# Altium integrated library Actel MX.IntLib: 334 symbols (part 20 of 20)
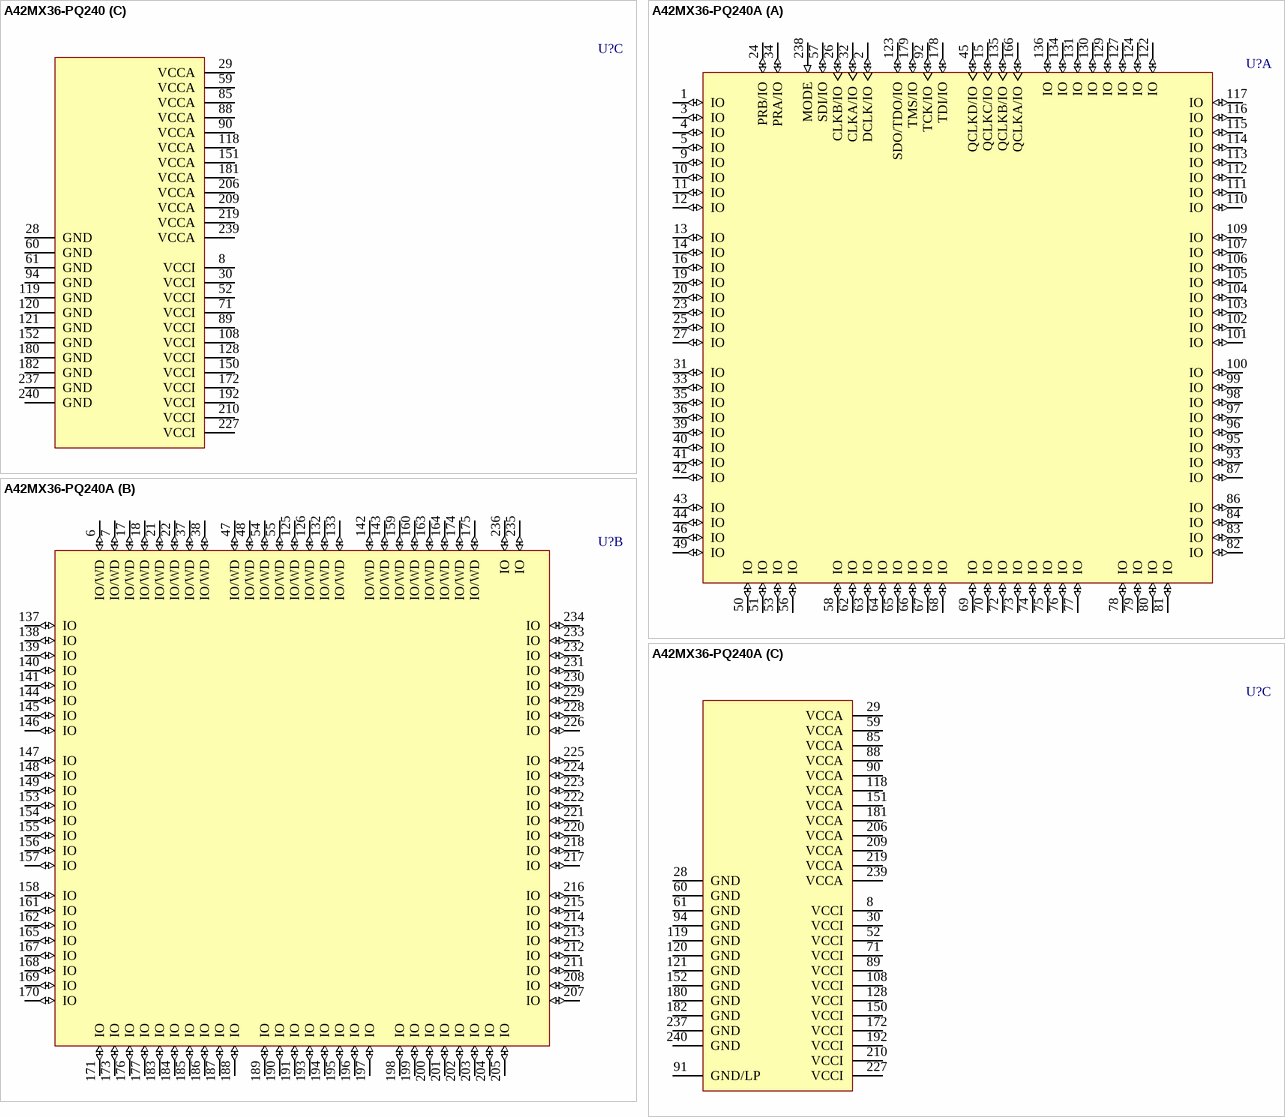
[diagram p151: symbols A42MX36-PQ240 to A42MX36-PQ240A]

## A42MX36-PQ240
designator U?
A42MX36 FPGA, 202 User IOs, 240-Pin PQFP, Speed Grade Standard, Commercial Grade; DatasheetVersion: v6.1, Apr-2009; PackageVersion: ver11.2, Nov-2009; PackageReference: PQ240; PackageDescription: 240-Pin Plastic Quad Flat Pack (PQ240); Code_JEDEC: MS-029-GA; ComponentLink1Description: Manufacturer URL; ComponentLink1URL: http://www.actel.com/; ComponentLink2Description: MX Datasheet; ComponentLink2URL: http://www.actel.com/documents/MX_DS.pdf; ComponentLink3Description: Package Mechanical Drawings; ComponentLink3URL: http://www.actel.com/documents/PckgMechDrwngs.pdf; ComponentLink4Description: MX Documents; ComponentLink4URL: http://www.actel.com/products/mx/docs.aspx
footprint PQ240_N (Shrink QFP, 240-Leads, Body 32x32mm, Pitch 0.5mm, IPC Medium Density)
footprint PQ240_L (Shrink QFP, 240-Leads, Body 32x32mm, Pitch 0.5mm, IPC High Density)
footprint PQ240_M (Shrink QFP, 240-Leads, Body 32x32mm, Pitch 0.5mm, IPC Low Density)
part A pins: 1 IO (io), 2 DCLK/IO (io), 3 IO (io), 4 IO (io), 5 IO (io), 9 IO (io), 10 IO (io), 11 IO (io), 12 IO (io), 13 IO (io), 14 IO (io), 15 QCLKC/IO (io), 16 IO (io), 19 IO (io), 20 IO (io), 23 IO (io), 24 PRB/IO (io), 25 IO (io), 26 CLKB/IO (io), 27 IO (io), 31 IO (io), 32 CLKA/IO (io), 33 IO (io), 34 PRA/IO (io), 35 IO (io), 36 IO (io), 39 IO (io), 40 IO (io), 41 IO (io), 42 IO (io), 43 IO (io), 44 IO (io), 45 QCLKD/IO (io), 46 IO (io), 49 IO (io), 50 IO (io), 51 IO (io), 53 IO (io), 56 IO (io), 57 SDI/IO (io), 58 IO (io), 62 IO (io), 63 IO (io), 64 IO (io), 65 IO (io), 66 IO (io), 67 IO (io), 68 IO (io), 69 IO (io), 70 IO (io), 72 IO (io), 73 IO (io), 74 IO (io), 75 IO (io), 76 IO (io), 77 IO (io), 78 IO (io), 79 IO (io), 80 IO (io), 81 IO (io), 82 IO (io), 83 IO (io), 84 IO (io), 86 IO (io), 87 IO (io), 91 LP (in) "Datasheet Ver6.0", 92 TCK/IO (io), 93 IO (io), 95 IO (io), 96 IO (io), 97 IO (io), 98 IO (io), 99 IO (io), 100 IO (io), 101 IO (io), 102 IO (io), 103 IO (io), 104 IO (io), 105 IO (io), 106 IO (io), 107 IO (io), 109 IO (io), 110 IO (io), 111 IO (io), 112 IO (io), 113 IO (io), 114 IO (io), 115 IO (io), 116 IO (io), 117 IO (io), 122 IO (io), 123 SDO/TDO/IO (io), 124 IO (io), 127 IO (io), 129 IO (io), 130 IO (io), 131 IO (io), 134 IO (io), 135 QCLKB/IO (io), 136 IO (io), 166 QCLKA/IO (io), 178 TDI/IO (io), 179 TMS/IO (io), 238 MODE (in)
part B pins: 6 IO/WD (io), 7 IO/WD (io), 17 IO/WD (io), 18 IO/WD (io), 21 IO/WD (io), 22 IO/WD (io), 37 IO/WD (io), 38 IO/WD (io), 47 IO/WD (io), 48 IO/WD (io), 54 IO/WD (io), 55 IO/WD (io), 125 IO/WD (io), 126 IO/WD (io), 132 IO/WD (io), 133 IO/WD (io), 137 IO (io), 138 IO (io), 139 IO (io), 140 IO (io), 141 IO (io), 142 IO/WD (io), 143 IO/WD (io), 144 IO (io), 145 IO (io), 146 IO (io), 147 IO (io), 148 IO (io), 149 IO (io), 153 IO (io), 154 IO (io), 155 IO (io), 156 IO (io), 157 IO (io), 158 IO (io), 159 IO/WD (io), 160 IO/WD (io), 161 IO (io), 162 IO (io), 163 IO/WD (io), 164 IO/WD (io), 165 IO (io), 167 IO (io), 168 IO (io), 169 IO (io), 170 IO (io), 171 IO (io), 173 IO (io), 174 IO/WD (io), 175 IO/WD (io), 176 IO (io), 177 IO (io), 183 IO (io), 184 IO (io), 185 IO (io), 186 IO (io), 187 IO (io), 188 IO (io), 189 IO (io), 190 IO (io), 191 IO (io), 193 IO (io), 194 IO (io), 195 IO (io), 196 IO (io), 197 IO (io), 198 IO (io), 199 IO (io), 200 IO (io), 201 IO (io), 202 IO (io), 203 IO (io), 204 IO (io), 205 IO (io), 207 IO (io), 208 IO (io), 211 IO (io), 212 IO (io), 213 IO (io), 214 IO (io), 215 IO (io), 216 IO (io), 217 IO (io), 218 IO (io), 220 IO (io), 221 IO (io), 222 IO (io), 223 IO (io), 224 IO (io), 225 IO (io), 226 IO (io), 228 IO (io), 229 IO (io), 230 IO (io), 231 IO (io), 232 IO (io), 233 IO (io), 234 IO (io), 235 IO (io), 236 IO (io)
part C pins: 8 VCCI (power), 28 GND (power), 29 VCCA (power), 30 VCCI (power), 52 VCCI (power), 59 VCCA (power), 60 GND (power), 61 GND (power), 71 VCCI (power), 85 VCCA (power), 88 VCCA (power), 89 VCCI (power), 90 VCCA (power), 94 GND (power), 108 VCCI (power), 118 VCCA (power), 119 GND (power), 120 GND (power), 121 GND (power), 128 VCCI (power), 150 VCCI (power), 151 VCCA (power), 152 GND (power), 172 VCCI (power), 180 GND (power), 181 VCCA (power), 182 GND (power), 192 VCCI (power), 206 VCCA (power), 209 VCCA (power), 210 VCCI (power), 219 VCCA (power), 227 VCCI (power), 237 GND (power), 239 VCCA (power), 240 GND (power)

## A42MX36-PQ240A
designator U?
A42MX36 FPGA, 202 User IOs, 240-Pin PQFP, Speed Grade Standard, Automotive Grade; DatasheetVersion: v3.1, May-2006; PackageVersion: ver11.2, Nov-2009; PackageReference: PQ240; PackageDescription: 240-Pin Plastic Quad Flat Pack (PQ240); Code_JEDEC: MS-029-GA; ComponentLink1Description: Manufacturer URL; ComponentLink1URL: http://www.actel.com/; ComponentLink2Description: MX Automotive Datasheet; ComponentLink2URL: http://www.actel.com/documents/MX_Auto_DS.pdf; ComponentLink3Description: Package Mechanical Drawings; ComponentLink3URL: http://www.actel.com/documents/PckgMechDrwngs.pdf; ComponentLink4Description: MX Documents; ComponentLink4URL: http://www.actel.com/products/mx/docs.aspx
footprint PQ240_N (Shrink QFP, 240-Leads, Body 32x32mm, Pitch 0.5mm, IPC Medium Density)
footprint PQ240_L (Shrink QFP, 240-Leads, Body 32x32mm, Pitch 0.5mm, IPC High Density)
footprint PQ240_M (Shrink QFP, 240-Leads, Body 32x32mm, Pitch 0.5mm, IPC Low Density)
part A pins: 1 IO (io), 2 DCLK/IO (io), 3 IO (io), 4 IO (io), 5 IO (io), 9 IO (io), 10 IO (io), 11 IO (io), 12 IO (io), 13 IO (io), 14 IO (io), 15 QCLKC/IO (io), 16 IO (io), 19 IO (io), 20 IO (io), 23 IO (io), 24 PRB/IO (io), 25 IO (io), 26 CLKB/IO (io), 27 IO (io), 31 IO (io), 32 CLKA/IO (io), 33 IO (io), 34 PRA/IO (io), 35 IO (io), 36 IO (io), 39 IO (io), 40 IO (io), 41 IO (io), 42 IO (io), 43 IO (io), 44 IO (io), 45 QCLKD/IO (io), 46 IO (io), 49 IO (io), 50 IO (io), 51 IO (io), 53 IO (io), 56 IO (io), 57 SDI/IO (io), 58 IO (io), 62 IO (io), 63 IO (io), 64 IO (io), 65 IO (io), 66 IO (io), 67 IO (io), 68 IO (io), 69 IO (io), 70 IO (io), 72 IO (io), 73 IO (io), 74 IO (io), 75 IO (io), 76 IO (io), 77 IO (io), 78 IO (io), 79 IO (io), 80 IO (io), 81 IO (io), 82 IO (io), 83 IO (io), 84 IO (io), 86 IO (io), 87 IO (io), 92 TCK/IO (io), 93 IO (io), 95 IO (io), 96 IO (io), 97 IO (io), 98 IO (io), 99 IO (io), 100 IO (io), 101 IO (io), 102 IO (io), 103 IO (io), 104 IO (io), 105 IO (io), 106 IO (io), 107 IO (io), 109 IO (io), 110 IO (io), 111 IO (io), 112 IO (io), 113 IO (io), 114 IO (io), 115 IO (io), 116 IO (io), 117 IO (io), 122 IO (io), 123 SDO/TDO/IO (io), 124 IO (io), 127 IO (io), 129 IO (io), 130 IO (io), 131 IO (io), 134 IO (io), 135 QCLKB/IO (io), 136 IO (io), 166 QCLKA/IO (io), 178 TDI/IO (io), 179 TMS/IO (io), 238 MODE (in)
part B pins: 6 IO/WD (io), 7 IO/WD (io), 17 IO/WD (io), 18 IO/WD (io), 21 IO/WD (io), 22 IO/WD (io), 37 IO/WD (io), 38 IO/WD (io), 47 IO/WD (io), 48 IO/WD (io), 54 IO/WD (io), 55 IO/WD (io), 125 IO/WD (io), 126 IO/WD (io), 132 IO/WD (io), 133 IO/WD (io), 137 IO (io), 138 IO (io), 139 IO (io), 140 IO (io), 141 IO (io), 142 IO/WD (io), 143 IO/WD (io), 144 IO (io), 145 IO (io), 146 IO (io), 147 IO (io), 148 IO (io), 149 IO (io), 153 IO (io), 154 IO (io), 155 IO (io), 156 IO (io), 157 IO (io), 158 IO (io), 159 IO/WD (io), 160 IO/WD (io), 161 IO (io), 162 IO (io), 163 IO/WD (io), 164 IO/WD (io), 165 IO (io), 167 IO (io), 168 IO (io), 169 IO (io), 170 IO (io), 171 IO (io), 173 IO (io), 174 IO/WD (io), 175 IO/WD (io), 176 IO (io), 177 IO (io), 183 IO (io), 184 IO (io), 185 IO (io), 186 IO (io), 187 IO (io), 188 IO (io), 189 IO (io), 190 IO (io), 191 IO (io), 193 IO (io), 194 IO (io), 195 IO (io), 196 IO (io), 197 IO (io), 198 IO (io), 199 IO (io), 200 IO (io), 201 IO (io), 202 IO (io), 203 IO (io), 204 IO (io), 205 IO (io), 207 IO (io), 208 IO (io), 211 IO (io), 212 IO (io), 213 IO (io), 214 IO (io), 215 IO (io), 216 IO (io), 217 IO (io), 218 IO (io), 220 IO (io), 221 IO (io), 222 IO (io), 223 IO (io), 224 IO (io), 225 IO (io), 226 IO (io), 228 IO (io), 229 IO (io), 230 IO (io), 231 IO (io), 232 IO (io), 233 IO (io), 234 IO (io), 235 IO (io), 236 IO (io)
part C pins: 8 VCCI (power), 28 GND (power), 29 VCCA (power), 30 VCCI (power), 52 VCCI (power), 59 VCCA (power), 60 GND (power), 61 GND (power), 71 VCCI (power), 85 VCCA (power), 88 VCCA (power), 89 VCCI (power), 90 VCCA (power), 91 GND/LP (power), 94 GND (power), 108 VCCI (power), 118 VCCA (power), 119 GND (power), 120 GND (power), 121 GND (power), 128 VCCI (power), 150 VCCI (power), 151 VCCA (power), 152 GND (power), 172 VCCI (power), 180 GND (power), 181 VCCA (power), 182 GND (power), 192 VCCI (power), 206 VCCA (power), 209 VCCA (power), 210 VCCI (power), 219 VCCA (power), 227 VCCI (power), 237 GND (power), 239 VCCA (power), 240 GND (power)

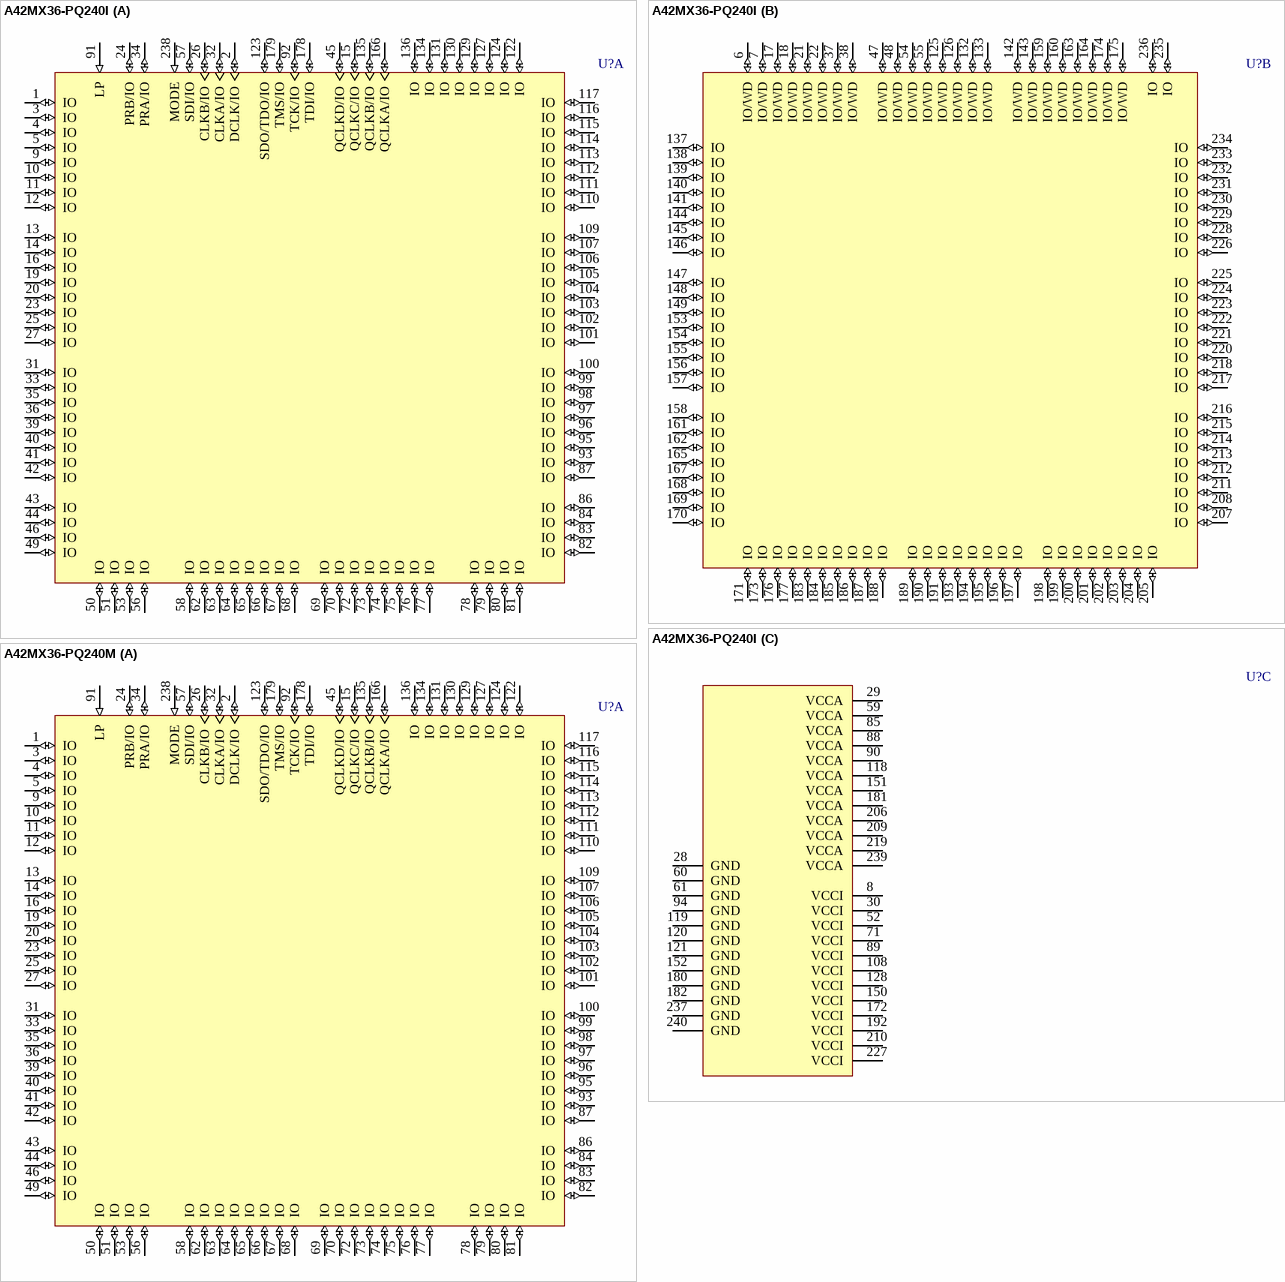
[diagram p131: symbols A42MX36-PQ240I to A42MX36-PQ240M]

## A42MX36-PQ240I
designator U?
A42MX36 FPGA, 202 User IOs, 240-Pin PQFP, Speed Grade Standard, Industrial Grade; DatasheetVersion: v6.1, Apr-2009; PackageVersion: ver11.2, Nov-2009; PackageReference: PQ240; PackageDescription: 240-Pin Plastic Quad Flat Pack (PQ240); Code_JEDEC: MS-029-GA; ComponentLink1Description: Manufacturer URL; ComponentLink1URL: http://www.actel.com/; ComponentLink2Description: MX Datasheet; ComponentLink2URL: http://www.actel.com/documents/MX_DS.pdf; ComponentLink3Description: Package Mechanical Drawings; ComponentLink3URL: http://www.actel.com/documents/PckgMechDrwngs.pdf; ComponentLink4Description: MX Documents; ComponentLink4URL: http://www.actel.com/products/mx/docs.aspx
footprint PQ240_N (Shrink QFP, 240-Leads, Body 32x32mm, Pitch 0.5mm, IPC Medium Density)
footprint PQ240_L (Shrink QFP, 240-Leads, Body 32x32mm, Pitch 0.5mm, IPC High Density)
footprint PQ240_M (Shrink QFP, 240-Leads, Body 32x32mm, Pitch 0.5mm, IPC Low Density)
part A pins: 1 IO (io), 2 DCLK/IO (io), 3 IO (io), 4 IO (io), 5 IO (io), 9 IO (io), 10 IO (io), 11 IO (io), 12 IO (io), 13 IO (io), 14 IO (io), 15 QCLKC/IO (io), 16 IO (io), 19 IO (io), 20 IO (io), 23 IO (io), 24 PRB/IO (io), 25 IO (io), 26 CLKB/IO (io), 27 IO (io), 31 IO (io), 32 CLKA/IO (io), 33 IO (io), 34 PRA/IO (io), 35 IO (io), 36 IO (io), 39 IO (io), 40 IO (io), 41 IO (io), 42 IO (io), 43 IO (io), 44 IO (io), 45 QCLKD/IO (io), 46 IO (io), 49 IO (io), 50 IO (io), 51 IO (io), 53 IO (io), 56 IO (io), 57 SDI/IO (io), 58 IO (io), 62 IO (io), 63 IO (io), 64 IO (io), 65 IO (io), 66 IO (io), 67 IO (io), 68 IO (io), 69 IO (io), 70 IO (io), 72 IO (io), 73 IO (io), 74 IO (io), 75 IO (io), 76 IO (io), 77 IO (io), 78 IO (io), 79 IO (io), 80 IO (io), 81 IO (io), 82 IO (io), 83 IO (io), 84 IO (io), 86 IO (io), 87 IO (io), 91 LP (in) "Datasheet Ver6.0", 92 TCK/IO (io), 93 IO (io), 95 IO (io), 96 IO (io), 97 IO (io), 98 IO (io), 99 IO (io), 100 IO (io), 101 IO (io), 102 IO (io), 103 IO (io), 104 IO (io), 105 IO (io), 106 IO (io), 107 IO (io), 109 IO (io), 110 IO (io), 111 IO (io), 112 IO (io), 113 IO (io), 114 IO (io), 115 IO (io), 116 IO (io), 117 IO (io), 122 IO (io), 123 SDO/TDO/IO (io), 124 IO (io), 127 IO (io), 129 IO (io), 130 IO (io), 131 IO (io), 134 IO (io), 135 QCLKB/IO (io), 136 IO (io), 166 QCLKA/IO (io), 178 TDI/IO (io), 179 TMS/IO (io), 238 MODE (in)
part B pins: 6 IO/WD (io), 7 IO/WD (io), 17 IO/WD (io), 18 IO/WD (io), 21 IO/WD (io), 22 IO/WD (io), 37 IO/WD (io), 38 IO/WD (io), 47 IO/WD (io), 48 IO/WD (io), 54 IO/WD (io), 55 IO/WD (io), 125 IO/WD (io), 126 IO/WD (io), 132 IO/WD (io), 133 IO/WD (io), 137 IO (io), 138 IO (io), 139 IO (io), 140 IO (io), 141 IO (io), 142 IO/WD (io), 143 IO/WD (io), 144 IO (io), 145 IO (io), 146 IO (io), 147 IO (io), 148 IO (io), 149 IO (io), 153 IO (io), 154 IO (io), 155 IO (io), 156 IO (io), 157 IO (io), 158 IO (io), 159 IO/WD (io), 160 IO/WD (io), 161 IO (io), 162 IO (io), 163 IO/WD (io), 164 IO/WD (io), 165 IO (io), 167 IO (io), 168 IO (io), 169 IO (io), 170 IO (io), 171 IO (io), 173 IO (io), 174 IO/WD (io), 175 IO/WD (io), 176 IO (io), 177 IO (io), 183 IO (io), 184 IO (io), 185 IO (io), 186 IO (io), 187 IO (io), 188 IO (io), 189 IO (io), 190 IO (io), 191 IO (io), 193 IO (io), 194 IO (io), 195 IO (io), 196 IO (io), 197 IO (io), 198 IO (io), 199 IO (io), 200 IO (io), 201 IO (io), 202 IO (io), 203 IO (io), 204 IO (io), 205 IO (io), 207 IO (io), 208 IO (io), 211 IO (io), 212 IO (io), 213 IO (io), 214 IO (io), 215 IO (io), 216 IO (io), 217 IO (io), 218 IO (io), 220 IO (io), 221 IO (io), 222 IO (io), 223 IO (io), 224 IO (io), 225 IO (io), 226 IO (io), 228 IO (io), 229 IO (io), 230 IO (io), 231 IO (io), 232 IO (io), 233 IO (io), 234 IO (io), 235 IO (io), 236 IO (io)
part C pins: 8 VCCI (power), 28 GND (power), 29 VCCA (power), 30 VCCI (power), 52 VCCI (power), 59 VCCA (power), 60 GND (power), 61 GND (power), 71 VCCI (power), 85 VCCA (power), 88 VCCA (power), 89 VCCI (power), 90 VCCA (power), 94 GND (power), 108 VCCI (power), 118 VCCA (power), 119 GND (power), 120 GND (power), 121 GND (power), 128 VCCI (power), 150 VCCI (power), 151 VCCA (power), 152 GND (power), 172 VCCI (power), 180 GND (power), 181 VCCA (power), 182 GND (power), 192 VCCI (power), 206 VCCA (power), 209 VCCA (power), 210 VCCI (power), 219 VCCA (power), 227 VCCI (power), 237 GND (power), 239 VCCA (power), 240 GND (power)

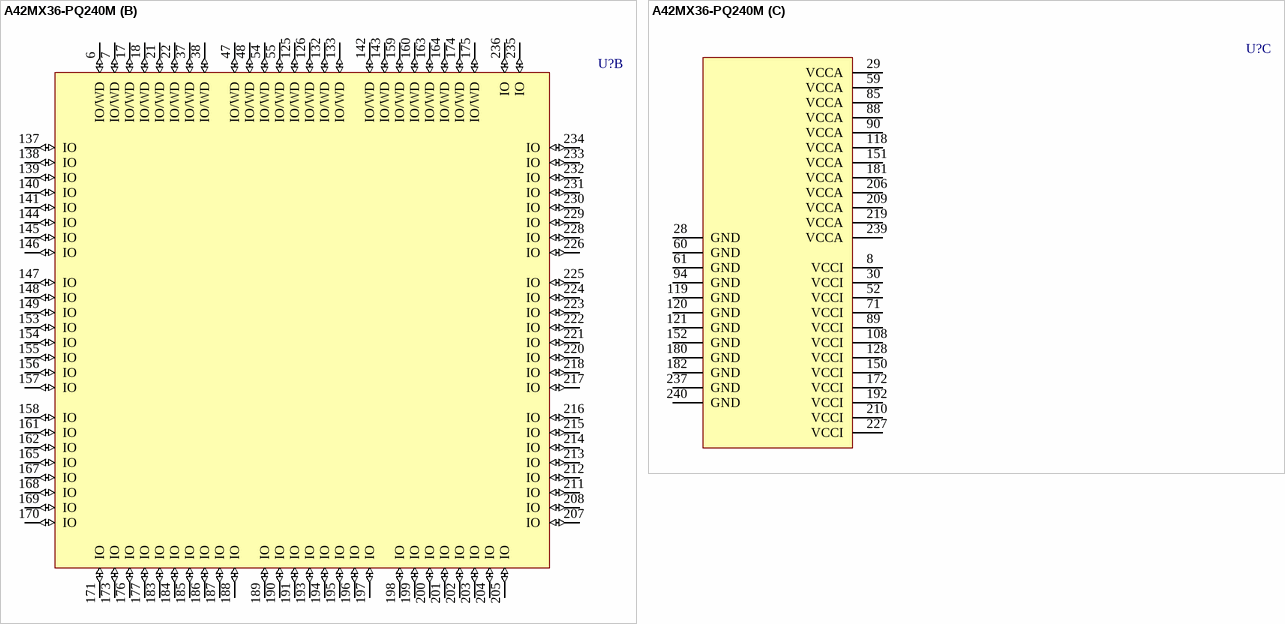
[diagram p132: symbol A42MX36-PQ240M]

## A42MX36-PQ240M
designator U?
A42MX36 FPGA, 202 User IOs, 240-Pin PQFP, Speed Grade Standard, Military Grade; DatasheetVersion: v6.1, Apr-2009; PackageVersion: ver11.2, Nov-2009; PackageReference: PQ240; PackageDescription: 240-Pin Plastic Quad Flat Pack (PQ240); Code_JEDEC: MS-029-GA; ComponentLink1Description: Manufacturer URL; ComponentLink1URL: http://www.actel.com/; ComponentLink2Description: MX Datasheet; ComponentLink2URL: http://www.actel.com/documents/MX_DS.pdf; ComponentLink3Description: Package Mechanical Drawings; ComponentLink3URL: http://www.actel.com/documents/PckgMechDrwngs.pdf; ComponentLink4Description: MX Documents; ComponentLink4URL: http://www.actel.com/products/mx/docs.aspx
footprint PQ240_N (Shrink QFP, 240-Leads, Body 32x32mm, Pitch 0.5mm, IPC Medium Density)
footprint PQ240_L (Shrink QFP, 240-Leads, Body 32x32mm, Pitch 0.5mm, IPC High Density)
footprint PQ240_M (Shrink QFP, 240-Leads, Body 32x32mm, Pitch 0.5mm, IPC Low Density)
part A pins: 1 IO (io), 2 DCLK/IO (io), 3 IO (io), 4 IO (io), 5 IO (io), 9 IO (io), 10 IO (io), 11 IO (io), 12 IO (io), 13 IO (io), 14 IO (io), 15 QCLKC/IO (io), 16 IO (io), 19 IO (io), 20 IO (io), 23 IO (io), 24 PRB/IO (io), 25 IO (io), 26 CLKB/IO (io), 27 IO (io), 31 IO (io), 32 CLKA/IO (io), 33 IO (io), 34 PRA/IO (io), 35 IO (io), 36 IO (io), 39 IO (io), 40 IO (io), 41 IO (io), 42 IO (io), 43 IO (io), 44 IO (io), 45 QCLKD/IO (io), 46 IO (io), 49 IO (io), 50 IO (io), 51 IO (io), 53 IO (io), 56 IO (io), 57 SDI/IO (io), 58 IO (io), 62 IO (io), 63 IO (io), 64 IO (io), 65 IO (io), 66 IO (io), 67 IO (io), 68 IO (io), 69 IO (io), 70 IO (io), 72 IO (io), 73 IO (io), 74 IO (io), 75 IO (io), 76 IO (io), 77 IO (io), 78 IO (io), 79 IO (io), 80 IO (io), 81 IO (io), 82 IO (io), 83 IO (io), 84 IO (io), 86 IO (io), 87 IO (io), 91 LP (in) "Datasheet Ver6.0", 92 TCK/IO (io), 93 IO (io), 95 IO (io), 96 IO (io), 97 IO (io), 98 IO (io), 99 IO (io), 100 IO (io), 101 IO (io), 102 IO (io), 103 IO (io), 104 IO (io), 105 IO (io), 106 IO (io), 107 IO (io), 109 IO (io), 110 IO (io), 111 IO (io), 112 IO (io), 113 IO (io), 114 IO (io), 115 IO (io), 116 IO (io), 117 IO (io), 122 IO (io), 123 SDO/TDO/IO (io), 124 IO (io), 127 IO (io), 129 IO (io), 130 IO (io), 131 IO (io), 134 IO (io), 135 QCLKB/IO (io), 136 IO (io), 166 QCLKA/IO (io), 178 TDI/IO (io), 179 TMS/IO (io), 238 MODE (in)
part B pins: 6 IO/WD (io), 7 IO/WD (io), 17 IO/WD (io), 18 IO/WD (io), 21 IO/WD (io), 22 IO/WD (io), 37 IO/WD (io), 38 IO/WD (io), 47 IO/WD (io), 48 IO/WD (io), 54 IO/WD (io), 55 IO/WD (io), 125 IO/WD (io), 126 IO/WD (io), 132 IO/WD (io), 133 IO/WD (io), 137 IO (io), 138 IO (io), 139 IO (io), 140 IO (io), 141 IO (io), 142 IO/WD (io), 143 IO/WD (io), 144 IO (io), 145 IO (io), 146 IO (io), 147 IO (io), 148 IO (io), 149 IO (io), 153 IO (io), 154 IO (io), 155 IO (io), 156 IO (io), 157 IO (io), 158 IO (io), 159 IO/WD (io), 160 IO/WD (io), 161 IO (io), 162 IO (io), 163 IO/WD (io), 164 IO/WD (io), 165 IO (io), 167 IO (io), 168 IO (io), 169 IO (io), 170 IO (io), 171 IO (io), 173 IO (io), 174 IO/WD (io), 175 IO/WD (io), 176 IO (io), 177 IO (io), 183 IO (io), 184 IO (io), 185 IO (io), 186 IO (io), 187 IO (io), 188 IO (io), 189 IO (io), 190 IO (io), 191 IO (io), 193 IO (io), 194 IO (io), 195 IO (io), 196 IO (io), 197 IO (io), 198 IO (io), 199 IO (io), 200 IO (io), 201 IO (io), 202 IO (io), 203 IO (io), 204 IO (io), 205 IO (io), 207 IO (io), 208 IO (io), 211 IO (io), 212 IO (io), 213 IO (io), 214 IO (io), 215 IO (io), 216 IO (io), 217 IO (io), 218 IO (io), 220 IO (io), 221 IO (io), 222 IO (io), 223 IO (io), 224 IO (io), 225 IO (io), 226 IO (io), 228 IO (io), 229 IO (io), 230 IO (io), 231 IO (io), 232 IO (io), 233 IO (io), 234 IO (io), 235 IO (io), 236 IO (io)
part C pins: 8 VCCI (power), 28 GND (power), 29 VCCA (power), 30 VCCI (power), 52 VCCI (power), 59 VCCA (power), 60 GND (power), 61 GND (power), 71 VCCI (power), 85 VCCA (power), 88 VCCA (power), 89 VCCI (power), 90 VCCA (power), 94 GND (power), 108 VCCI (power), 118 VCCA (power), 119 GND (power), 120 GND (power), 121 GND (power), 128 VCCI (power), 150 VCCI (power), 151 VCCA (power), 152 GND (power), 172 VCCI (power), 180 GND (power), 181 VCCA (power), 182 GND (power), 192 VCCI (power), 206 VCCA (power), 209 VCCA (power), 210 VCCI (power), 219 VCCA (power), 227 VCCI (power), 237 GND (power), 239 VCCA (power), 240 GND (power)